# Altium footprint library PcbLib1.PcbLib: 43 footprints (part 1 of 3)
Each footprint in its own frame and in the unit in brackets; x right, y up, seen from the top. Pads: shape width x height; smd on the part's side, far side on the other; paste and mask are expansions set on the pad; w line width, h text height; cw(c..) or ccw(c..) is an arc to the next point about the centre after c.
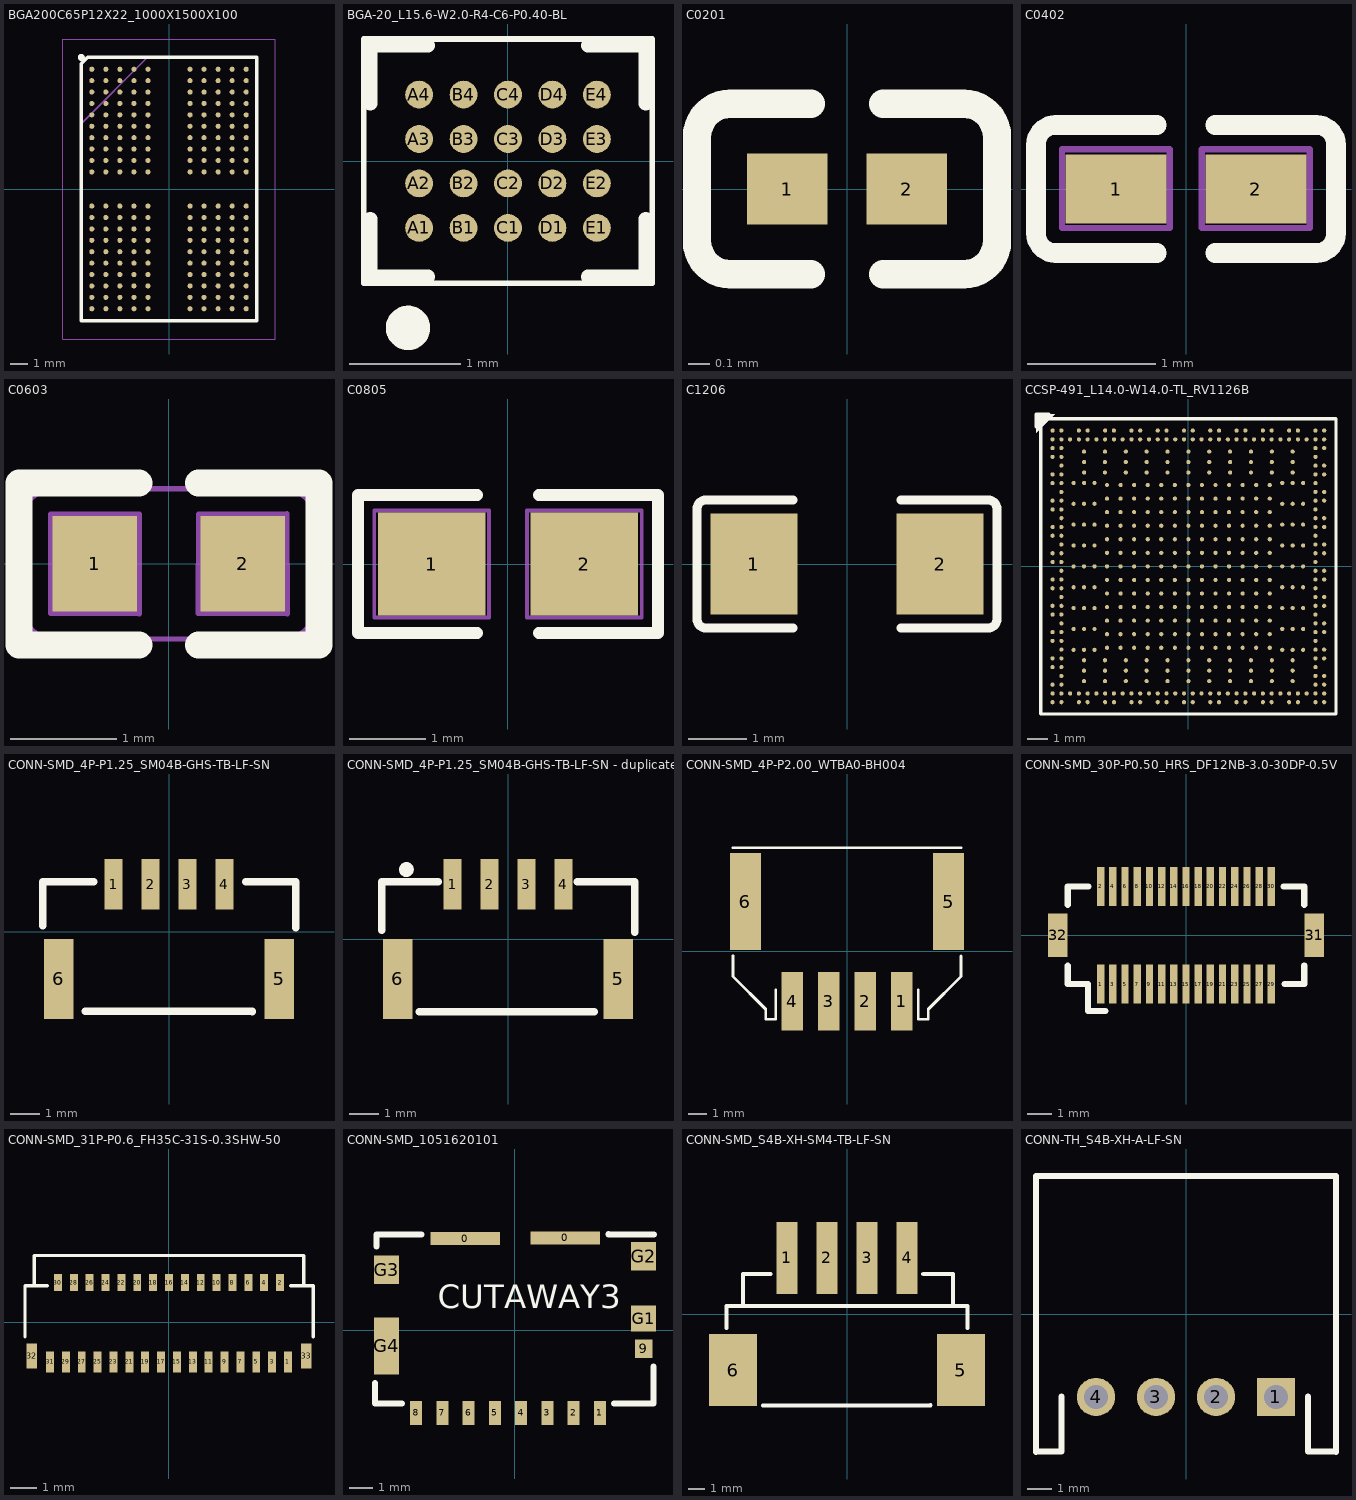
[diagram p0: the footprints below, top view; thin cyan lines are the x and y axes]

## BGA200C65P12X22_1000X1500X100 [mm]
pads (200):
  round 0.29 smd: A1(-4.4,6.825) A2(-3.6,6.825) A3(-2.8,6.825) A4(-2,6.825) A5(-1.2,6.825) A8(1.2,6.825) A9(2,6.825) A10(2.8,6.825) A11(3.6,6.825) A12(4.4,6.825) AA1(-4.4,-6.175) AA2(-3.6,-6.175) AA3(-2.8,-6.175) AA4(-2,-6.175) AA5(-1.2,-6.175) AA8(1.2,-6.175) AA9(2,-6.175) AA10(2.8,-6.175) AA11(3.6,-6.175) AA12(4.4,-6.175) AB1(-4.4,-6.825) AB2(-3.6,-6.825) AB3(-2.8,-6.825) AB4(-2,-6.825) AB5(-1.2,-6.825) AB8(1.2,-6.825) AB9(2,-6.825) AB10(2.8,-6.825) AB11(3.6,-6.825) AB12(4.4,-6.825) B1(-4.4,6.175) B2(-3.6,6.175) B3(-2.8,6.175) B4(-2,6.175) B5(-1.2,6.175) B8(1.2,6.175) B9(2,6.175) B10(2.8,6.175) B11(3.6,6.175) B12(4.4,6.175) C1(-4.4,5.525) C2(-3.6,5.525) C3(-2.8,5.525) C4(-2,5.525) C5(-1.2,5.525) C8(1.2,5.525) C9(2,5.525) C10(2.8,5.525) C11(3.6,5.525) C12(4.4,5.525) D1(-4.4,4.875) D2(-3.6,4.875) D3(-2.8,4.875) D4(-2,4.875) D5(-1.2,4.875) D8(1.2,4.875) D9(2,4.875) D10(2.8,4.875) D11(3.6,4.875) D12(4.4,4.875) E1(-4.4,4.225) E2(-3.6,4.225) E3(-2.8,4.225) E4(-2,4.225) E5(-1.2,4.225) E8(1.2,4.225) E9(2,4.225) E10(2.8,4.225) E11(3.6,4.225) E12(4.4,4.225) F1(-4.4,3.575) F2(-3.6,3.575) F3(-2.8,3.575) F4(-2,3.575) F5(-1.2,3.575) F8(1.2,3.575) F9(2,3.575) F10(2.8,3.575) F11(3.6,3.575) F12(4.4,3.575) G1(-4.4,2.925) G2(-3.6,2.925) G3(-2.8,2.925) G4(-2,2.925) G5(-1.2,2.925) G8(1.2,2.925) G9(2,2.925) G10(2.8,2.925) G11(3.6,2.925) G12(4.4,2.925) H1(-4.4,2.275) H2(-3.6,2.275) H3(-2.8,2.275) H4(-2,2.275) H5(-1.2,2.275) H8(1.2,2.275) H9(2,2.275) H10(2.8,2.275) H11(3.6,2.275) H12(4.4,2.275) J1(-4.4,1.625) J2(-3.6,1.625) J3(-2.8,1.625) J4(-2,1.625) J5(-1.2,1.625) J8(1.2,1.625) J9(2,1.625) J10(2.8,1.625) J11(3.6,1.625) J12(4.4,1.625) K1(-4.4,0.975) K2(-3.6,0.975) K3(-2.8,0.975) K4(-2,0.975) K5(-1.2,0.975) K8(1.2,0.975) K9(2,0.975) K10(2.8,0.975) K11(3.6,0.975) K12(4.4,0.975) N1(-4.4,-0.975) N2(-3.6,-0.975) N3(-2.8,-0.975) N4(-2,-0.975) N5(-1.2,-0.975) N8(1.2,-0.975) N9(2,-0.975) N10(2.8,-0.975) N11(3.6,-0.975) N12(4.4,-0.975) P1(-4.4,-1.625) P2(-3.6,-1.625) P3(-2.8,-1.625) P4(-2,-1.625) P5(-1.2,-1.625) P8(1.2,-1.625) P9(2,-1.625) P10(2.8,-1.625) P11(3.6,-1.625) P12(4.4,-1.625) R1(-4.4,-2.275) R2(-3.6,-2.275) R3(-2.8,-2.275) R4(-2,-2.275) R5(-1.2,-2.275) R8(1.2,-2.275) R9(2,-2.275) R10(2.8,-2.275) R11(3.6,-2.275) R12(4.4,-2.275) T1(-4.4,-2.925) T2(-3.6,-2.925) T3(-2.8,-2.925) T4(-2,-2.925) T5(-1.2,-2.925) T8(1.2,-2.925) T9(2,-2.925) T10(2.8,-2.925) T11(3.6,-2.925) T12(4.4,-2.925) U1(-4.4,-3.575) U2(-3.6,-3.575) U3(-2.8,-3.575) U4(-2,-3.575) U5(-1.2,-3.575) U8(1.2,-3.575) U9(2,-3.575) U10(2.8,-3.575) U11(3.6,-3.575) U12(4.4,-3.575) V1(-4.4,-4.225) V2(-3.6,-4.225) V3(-2.8,-4.225) V4(-2,-4.225) V5(-1.2,-4.225) V8(1.2,-4.225) V9(2,-4.225) V10(2.8,-4.225) V11(3.6,-4.225) V12(4.4,-4.225) W1(-4.4,-4.875) W2(-3.6,-4.875) W3(-2.8,-4.875) W4(-2,-4.875) W5(-1.2,-4.875) W8(1.2,-4.875) W9(2,-4.875) W10(2.8,-4.875) W11(3.6,-4.875) W12(4.4,-4.875) Y1(-4.4,-5.525) Y2(-3.6,-5.525) Y3(-2.8,-5.525) Y4(-2,-5.525) Y5(-1.2,-5.525) Y8(1.2,-5.525) Y9(2,-5.525) Y10(2.8,-5.525) Y11(3.6,-5.525) Y12(4.4,-5.525)
Top Overlay:
  circle w0.2: c-5,7.5 r0.1
  lines w0.2: -5,-7.5 -5,7.139 -4.639,7.5 5,7.5 5,-7.5 -5,-7.5
Mechanical 15:
  lines w0.1: -5,3.725 -1.225,7.5 ; -5,-7.5 -5,7.5 5,7.5 5,-7.5 -5,-7.5
Mechanical 20:
  lines w0.05: -6.05,-8.55 -6.05,8.55 6.05,8.55 6.05,-8.55 -6.05,-8.55
3D body "step_temp.STEP": height 0.95, standoff 0, extent -5,-7.25 5,7.25

## BGA-20_L15.6-W2.0-R4-C6-P0.40-BL [mm]
pads (20):
  round 0.25 smd mask+0.076: A1(-0.8,-0.6) A2(-0.8,-0.2) A3(-0.8,0.2) A4(-0.8,0.6) B1(-0.4,-0.6) B2(-0.4,-0.2) B3(-0.4,0.2) B4(-0.4,0.6) C1(0,-0.6) C2(0,-0.2) C3(0,0.2) C4(0,0.6) D1(0.4,-0.6) D2(0.4,-0.2) D3(0.4,0.2) D4(0.4,0.6) E1(0.8,-0.6) E2(0.8,-0.2) E3(0.8,0.2) E4(0.8,0.6)
Top Overlay:
  circle w0.2: c-0.9,-1.5 r0.1
  lines w0.05: -1.3,-1.1 -1.3,1.1 1.3,1.1 1.3,-1.1 -1.3,-1.1
  lines w0.127: -1.24,-0.52 -1.24,-1.04 -0.72,-1.04 ; -1.24,0.52 -1.24,1.04 -0.72,1.04 ; 0.72,-1.04 1.24,-1.04 1.24,-0.52 ; 0.72,1.04 1.24,1.04 1.24,0.52
3D body: height 0.56, standoff 0.08, extent -1.321,-1.118 1.321,1.118

## C0201 [mm]
pads (2):
  rect 0.368x0.324 smd paste-100 mask+0.051: 1(-0.274,0) 2(0.274,0)
Top Overlay:
  lines w0.13: -0.166,-0.391 -0.535,-0.391 cw(c-0.535,-0.238) -0.687,-0.238 -0.687,0.238 cw(c-0.535,0.238) -0.535,0.391 -0.166,0.391 ; 0.166,-0.391 0.535,-0.391 ccw(c0.535,-0.238) 0.687,-0.238 0.687,0.238 ccw(c0.535,0.238) 0.535,0.391 0.166,0.391
Top Paste:
  region: -0.081,-0.138 -0.081,0.138 -0.105,0.162 -0.434,0.162 -0.458,0.138 -0.458,-0.138 -0.434,-0.162 -0.105,-0.162
  region: 0.081,-0.138 0.081,0.138 0.105,0.162 0.434,0.162 0.458,0.138 0.458,-0.138 0.434,-0.162 0.105,-0.162
3D body "User Library-User Library-0201_Cap.step": height 0.31, standoff 0, extent -0.414,-0.15 0.466,0.15

## C0402 [mm] "cap"
height 0.55
pads (2):
  rect 0.79x0.54 smd paste+0 mask+0.05: 1(-0.545,0) 2(0.545,0)
Top Overlay:
  lines w0.152: -0.226,-0.499 -1.016,-0.499 cw(c-1.016,-0.346) -1.169,-0.346 -1.169,0.346 cw(c-1.016,0.346) -1.016,0.499 -0.226,0.499 ; 0.226,-0.499 1.016,-0.499 ccw(c1.016,-0.346) 1.169,-0.346 1.169,0.346 ccw(c1.016,0.346) 1.016,0.499 0.226,0.499
Top Paste:
  region: -0.18,0.225 -0.18,-0.225 -0.25,-0.275 -0.73,-0.275 -0.78,-0.225 -0.78,0.225 -0.73,0.275 -0.25,0.275
  region: 0.78,0.225 0.78,-0.225 0.73,-0.275 0.25,-0.275 0.18,-0.225 0.18,0.225 0.25,0.275 0.73,0.275
Mechanical 2:
  lines w0.05: -0.226,-0.499 -1.016,-0.499 cw(c-1.016,-0.346) -1.169,-0.346 -1.169,0.346 cw(c-1.016,0.346) -1.016,0.499 -0.226,0.499 ; 0.226,-0.499 1.016,-0.499 ccw(c1.016,-0.346) 1.169,-0.346 1.169,0.346 ccw(c1.016,0.346) 1.016,0.499 0.226,0.499 ; -0.966,-0.303 -0.127,-0.304 -0.126,0.31 -0.966,0.311 -0.966,-0.303 ; 0.124,-0.303 0.963,-0.304 0.964,0.31 0.124,0.311 0.124,-0.303
3D body "User Library-CAP_NP_0402_10Lx05Wx06H.sldprt": height 0.53, standoff 0, extent -0.523,-0.267 0.517,0.258

## C0603 [mm] "cap 0603"
height 0.85
pads (2):
  rect 0.8x0.9 smd paste+0 mask+0.051: 1(-0.7,0) 2(0.7,0)
Top Overlay:
  lines w0.254: -0.28,-0.766 -1.415,-0.766 -1.415,0.763 -0.28,0.763 ; 0.28,-0.769 1.42,-0.769 1.42,0.764 0.28,0.764
Mechanical 2:
  lines w0.05: 1.08,-0.71 ccw(c1.08,-0.4) 1.39,-0.4 1.39,0.4 ccw(c1.08,0.4) 1.08,0.71 ; 1.08,-0.71 0.28,-0.71 -0.28,-0.71 -1.08,-0.71 cw(c-1.08,-0.4) -1.39,-0.4 -1.39,0.4 cw(c-1.08,0.4) -1.08,0.71 -0.28,0.71 0.28,0.71 1.08,0.71 ; -1.117,-0.47 -1.114,0.468 -0.279,0.471 -0.277,-0.473 -1.117,-0.47 ; 0.28,-0.468 0.283,0.469 1.118,0.472 1.119,-0.472 0.28,-0.468
3D body "User Library-C0603-2.sldprt": height 0.8, standoff 0, extent -0.81,-0.396 0.79,0.404

## C0805 [mm]
height 0.025
pads (2):
  rect 1.41x1.35 smd paste-100 mask+0.05: 1(-1,0)
  rect 1.41x1.35 smd paste-100 mask+0.051: 2(1,0)
Top Overlay:
  lines w0.152: -0.401,-0.904 -1.964,-0.904 -1.964,0.904 -0.401,0.904 ; 0.401,-0.904 1.964,-0.904 1.964,0.904 0.401,0.904
Top Paste:
  region: 1.705,0.64 1.705,-0.64 1.655,-0.69 0.505,-0.69 0.455,-0.64 0.45,-0.23 0.9,-0.23 0.9,0.22 0.46,0.22 0.455,0.64 0.505,0.69 1.655,0.69
  region: -1.705,-0.64 -1.705,0.64 -1.655,0.69 -0.505,0.69 -0.455,0.64 -0.45,0.23 -0.9,0.23 -0.9,-0.22 -0.46,-0.22 -0.455,-0.64 -0.505,-0.69 -1.655,-0.69
Mechanical 2:
  lines w0.05: -0.401,-0.904 -1.811,-0.904 cw(c-1.811,-0.751) -1.964,-0.751 -1.964,0.751 cw(c-1.811,0.751) -1.811,0.904 -0.401,0.904 ; 0.401,-0.904 1.811,-0.904 ccw(c1.811,-0.751) 1.964,-0.751 1.964,0.751 ccw(c1.811,0.751) 1.811,0.904 0.401,0.904 ; -1.75,-0.7 -0.25,-0.7 -0.25,0.7 -1.75,0.7 -1.75,-0.7 ; 0.25,-0.7 1.75,-0.7 1.75,0.7 0.25,0.7 0.25,-0.7
3D body "CAP_0805_SAM.step": height 0.71, standoff 0, extent -1.304,-0.673 0.804,0.673

## C1206 [mm] "1206"
height 0.86
pads (2):
  rect 1.485x1.728 smd paste-100 mask+0.051: 1(-1.593,0) 2(1.593,0)
Top Overlay:
  lines w0.152: -0.926,-1.093 -2.411,-1.093 cw(c-2.411,-0.94) -2.564,-0.94 -2.564,0.94 cw(c-2.411,0.94) -2.411,1.093 -0.926,1.093 ; 0.926,-1.093 2.411,-1.093 ccw(c2.411,-0.94) 2.564,-0.94 2.564,0.94 ccw(c2.411,0.94) 2.411,1.093 0.926,1.093
Top Paste:
  region: -0.85,-0.764 -0.85,-0.394 -0.95,-0.294 -1.255,-0.294 -1.355,-0.194 -1.355,0.194 -1.255,0.294 -0.95,0.294 -0.85,0.394 -0.85,0.764 -0.95,0.864 -2.235,0.864 -2.335,0.764 -2.335,-0.764 -2.235,-0.864 -0.95,-0.864
  region: 0.85,-0.764 0.85,-0.394 0.95,-0.294 1.255,-0.294 1.355,-0.194 1.355,0.194 1.255,0.294 0.95,0.294 0.85,0.394 0.85,0.764 0.95,0.864 2.235,0.864 2.335,0.764 2.335,-0.764 2.235,-0.864 0.95,-0.864
3D body "User Library-User Library-1206_Cap.step": height 1.25, standoff 0, extent -2.22,-0.8 2.32,0.8

## CCSP-491_L14.0-W14.0-TL_RV1126B [mm]
pads (491):
  round 0.2 smd paste-100 mask+0.05: A1(-6.51,6.51) A1-2(-5,5.5) A1-4(-4,5.5) A1-6(-3,5.5) A1-8(-2,5.5) A1-10(-1,5.5) A1-12(0,5.5) A1-14(1,5.5) A1-16(2,5.5) A1-18(3,5.5) A1-20(4,5.5) A1-22(5,5.5) A2(-6.09,6.51) A2-1(-3.9,3.9) A2-2(-3.25,3.9) A2-3(-2.6,3.9) A2-4(-1.95,3.9) A2-5(-1.3,3.9) A2-6(-0.65,3.9) A2-7(0,3.9) A2-8(0.65,3.9) A2-9(1.3,3.9) A2-10(1.95,3.9) A2-11(2.6,3.9) A2-12(3.25,3.9) A2-13(3.9,3.9) A4(-5.25,6.51) A5(-4.83,6.51) A7(-3.99,6.51) A8(-3.57,6.51) A10(-2.73,6.51) A11(-2.31,6.51) A13(-1.47,6.51) A14(-1.05,6.51) A16(-0.21,6.51) A17(0.21,6.51) A19(1.05,6.51) A20(1.47,6.51) A22(2.31,6.51) A23(2.73,6.51) A25(3.57,6.51) A26(3.99,6.51) A28(4.83,6.51) A29(5.25,6.51) A31(6.09,6.51) A32(6.51,6.51) AA1(-6.51,-1.89) AA1-2(-5,-4.5) AA1-4(-4,-4.5) AA1-6(-3,-4.5) AA1-8(-2,-4.5) AA1-10(-1,-4.5) AA1-12(0,-4.5) AA1-14(1,-4.5) AA1-16(2,-4.5) AA1-18(3,-4.5) AA1-20(4,-4.5) AA1-22(5,-4.5) AA2(-6.09,-1.89) AA31(6.09,-1.89) AA32(6.51,-1.89) AB1(-6.51,-2.31) AB1-2(-5,-5) AB1-4(-4,-5) AB1-6(-3,-5) AB1-8(-2,-5) AB1-10(-1,-5) AB1-12(0,-5) AB1-14(1,-5) AB1-16(2,-5) AB1-18(3,-5) AB1-20(4,-5) AB1-22(5,-5) AB2(-6.09,-2.31) AB31(6.09,-2.31) AC1-2(-5,-5.5) AC1-4(-4,-5.5) AC1-6(-3,-5.5) AC1-8(-2,-5.5) AC1-10(-1,-5.5) AC1-12(0,-5.5) AC1-14(1,-5.5) AC1-16(2,-5.5) AC1-18(3,-5.5) AC1-20(4,-5.5) AC1-22(5,-5.5) AC2(-6.09,-2.73) AC31(6.09,-2.73) AC32(6.51,-2.73) AD1(-6.51,-3.15) AD2(-6.09,-3.15) AD31(6.09,-3.15) AD32(6.51,-3.15) AE1(-6.51,-3.57) AE2(-6.09,-3.57) AE31(6.09,-3.57) AF2(-6.09,-3.99) AF31(6.09,-3.99) AF32(6.51,-3.99) AG1(-6.51,-4.41) AG2(-6.09,-4.41) AG31(6.09,-4.41) AG32(6.51,-4.41) AH1(-6.51,-4.83) AH2(-6.09,-4.83) AH31(6.09,-4.83) AJ2(-6.09,-5.25) AJ31(6.09,-5.25) AJ32(6.51,-5.25) AK1(-6.51,-5.67) AK2(-6.09,-5.67) AK31(6.09,-5.67) AK32(6.51,-5.67) AL1(-6.51,-6.09) AL2(-6.09,-6.09) AL3(-5.67,-6.09) AL4(-5.25,-6.09) AL5(-4.83,-6.09) AL6(-4.41,-6.09) AL7(-3.99,-6.09) AL8(-3.57,-6.09) AL9(-3.15,-6.09) AL10(-2.73,-6.09) AL11(-2.31,-6.09) AL12(-1.89,-6.09) AL13(-1.47,-6.09) AL14(-1.05,-6.09) AL15(-0.63,-6.09) AL16(-0.21,-6.09) AL17(0.21,-6.09) AL18(0.63,-6.09) AL19(1.05,-6.09) AL20(1.47,-6.09) AL21(1.89,-6.09) AL22(2.31,-6.09) AL23(2.73,-6.09) AL24(3.15,-6.09) AL25(3.57,-6.09) AL26(3.99,-6.09) AL27(4.41,-6.09) AL28(4.83,-6.09) AL29(5.25,-6.09) AL30(5.67,-6.09) AL31(6.09,-6.09) AL32(6.51,-6.09) AM1(-6.51,-6.51) AM2(-6.09,-6.51) AM4(-5.25,-6.51) AM5(-4.83,-6.51) AM7(-3.99,-6.51) AM8(-3.57,-6.51) AM10(-2.73,-6.51) AM11(-2.31,-6.51) AM13(-1.47,-6.51) AM14(-1.05,-6.51) AM16(-0.21,-6.51) AM17(0.21,-6.51) AM19(1.05,-6.51) AM20(1.47,-6.51) AM22(2.31,-6.51) AM23(2.73,-6.51) AM25(3.57,-6.51) AM26(3.99,-6.51) AM28(4.83,-6.51) AM29(5.25,-6.51) AM31(6.09,-6.51) AM32(6.51,-6.51) B1(-6.51,6.09) B1-2(-5,5) B1-4(-4,5) B1-6(-3,5) B1-8(-2,5) B1-10(-1,5) B1-12(0,5) B1-14(1,5) B1-16(2,5) B1-18(3,5) B1-20(4,5) B1-22(5,5) B2(-6.09,6.09) B2-1(-3.9,3.25) B2-2(-3.25,3.25) B2-3(-2.6,3.25) B2-4(-1.95,3.25) B2-5(-1.3,3.25) B2-6(-0.65,3.25) B2-7(0,3.25) B2-8(0.65,3.25) B2-9(1.3,3.25) B2-10(1.95,3.25) B2-11(2.6,3.25) B2-12(3.25,3.25) B2-13(3.9,3.25) B3(-5.67,6.09) B4(-5.25,6.09) B5(-4.83,6.09) B6(-4.41,6.09) B7(-3.99,6.09) B8(-3.57,6.09) B9(-3.15,6.09) B10(-2.73,6.09) B11(-2.31,6.09) B12(-1.89,6.09) B13(-1.47,6.09) B14(-1.05,6.09) B15(-0.63,6.09) B16(-0.21,6.09) B17(0.21,6.09) B18(0.63,6.09) B19(1.05,6.09) B20(1.47,6.09) B21(1.89,6.09) B22(2.31,6.09) B23(2.73,6.09) B24(3.15,6.09) B25(3.57,6.09) B26(3.99,6.09) B27(4.41,6.09) B28(4.83,6.09) B29(5.25,6.09) B30(5.67,6.09) B31(6.09,6.09) B32(6.51,6.09) C1(-6.51,5.67) C1-2(-5,4.5) C1-4(-4,4.5) C1-6(-3,4.5) C1-8(-2,4.5) C1-10(-1,4.5) C1-12(0,4.5) C1-14(1,4.5) C1-16(2,4.5) C1-18(3,4.5) C1-20(4,4.5) C1-22(5,4.5) C2(-6.09,5.67) C2-1(-3.9,2.6) C2-2(-3.25,2.6) C2-3(-2.6,2.6) C2-4(-1.95,2.6) C2-5(-1.3,2.6) C2-6(-0.65,2.6) C2-7(0,2.6) C2-8(0.65,2.6) C2-9(1.3,2.6) C2-10(1.95,2.6) C2-11(2.6,2.6) C2-12(3.25,2.6) C2-13(3.9,2.6) C31(6.09,5.67) C32(6.51,5.67) D1(-6.51,5.25) D1-1(-5.5,4) D1-2(-5,4) D1-3(-4.5,4) D1-21(4.5,4) D1-22(5,4) D1-23(5.5,4) D2(-6.09,5.25) D2-1(-3.9,1.95) D2-2(-3.25,1.95) D2-3(-2.6,1.95) D2-4(-1.95,1.95) D2-5(-1.3,1.95) D2-6(-0.65,1.95) D2-7(0,1.95) D2-8(0.65,1.95) D2-9(1.3,1.95) D2-10(1.95,1.95) D2-11(2.6,1.95) D2-12(3.25,1.95) D2-13(3.9,1.95) D31(6.09,5.25) E2(-6.09,4.83) E2-1(-3.9,1.3) E2-2(-3.25,1.3) E2-3(-2.6,1.3) E2-4(-1.95,1.3) E2-5(-1.3,1.3) E2-6(-0.65,1.3) E2-7(0,1.3) E2-8(0.65,1.3) E2-9(1.3,1.3) E2-10(1.95,1.3) E2-11(2.6,1.3) E2-12(3.25,1.3) E2-13(3.9,1.3) E31(6.09,4.83) E32(6.51,4.83) F1(-6.51,4.41) F1-1(-5.5,3) F1-2(-5,3) F1-3(-4.5,3) F1-21(4.5,3) F1-22(5,3) F1-23(5.5,3) F2(-6.09,4.41) F2-1(-3.9,0.65) F2-2(-3.25,0.65) F2-3(-2.6,0.65) F2-4(-1.95,0.65) F2-5(-1.3,0.65) F2-6(-0.65,0.65) F2-7(0,0.65) F2-8(0.65,0.65) F2-9(1.3,0.65) F2-10(1.95,0.65) F2-11(2.6,0.65) F2-12(3.25,0.65) F2-13(3.9,0.65) F31(6.09,4.41) F32(6.51,4.41) G1(-6.51,3.99) G2(-6.09,3.99) G2-1(-3.9,0) G2-2(-3.25,0) G2-3(-2.6,0) G2-4(-1.95,0) G2-5(-1.3,0) G2-6(-0.65,0) G2-7(0,0) G2-8(0.65,0) G2-9(1.3,0) G2-10(1.95,0) G2-11(2.6,0) G2-12(3.25,0) G2-13(3.9,0) G31(6.09,3.99) H1-1(-5.5,2) H1-2(-5,2) H1-3(-4.5,2) H1-21(4.5,2) H1-22(5,2) H1-23(5.5,2) H2(-6.09,3.57) H2-1(-3.9,-0.65) H2-2(-3.25,-0.65) H2-3(-2.6,-0.65) H2-4(-1.95,-0.65) H2-5(-1.3,-0.65) H2-6(-0.65,-0.65) H2-7(0,-0.65) H2-8(0.65,-0.65) H2-9(1.3,-0.65) H2-10(1.95,-0.65) H2-11(2.6,-0.65) H2-12(3.25,-0.65) H2-13(3.9,-0.65) H31(6.09,3.57) H32(6.51,3.57) J1(-6.51,3.15) J2(-6.09,3.15) J2-1(-3.9,-1.3) J2-2(-3.25,-1.3) J2-3(-2.6,-1.3) J2-4(-1.95,-1.3) J2-5(-1.3,-1.3) J2-6(-0.65,-1.3) J2-7(0,-1.3) J2-8(0.65,-1.3) J2-9(1.3,-1.3) J2-10(1.95,-1.3) J2-11(2.6,-1.3) J2-12(3.25,-1.3) J2-13(3.9,-1.3) J31(6.09,3.15) J32(6.51,3.15) K1(-6.51,2.73) K1-1(-5.5,1) K1-2(-5,1) K1-3(-4.5,1) K1-21(4.5,1) K1-22(5,1) K1-23(5.5,1) K2(-6.09,2.73) K2-1(-3.9,-1.95) K2-2(-3.25,-1.95) K2-3(-2.6,-1.95) K2-4(-1.95,-1.95) K2-5(-1.3,-1.95) K2-6(-0.65,-1.95) K2-7(0,-1.95) K2-8(0.65,-1.95) K2-9(1.3,-1.95) K2-10(1.95,-1.95) K2-11(2.6,-1.95) K2-12(3.25,-1.95) K2-13(3.9,-1.95) K31(6.09,2.73) L2(-6.09,2.31) L2-1(-3.9,-2.6) L2-2(-3.25,-2.6) L2-3(-2.6,-2.6) L2-4(-1.95,-2.6) L2-5(-1.3,-2.6) L2-6(-0.65,-2.6) L2-7(0,-2.6) L2-8(0.65,-2.6) L2-9(1.3,-2.6) L2-10(1.95,-2.6) L2-11(2.6,-2.6) L2-12(3.25,-2.6) L2-13(3.9,-2.6) L31(6.09,2.31) L32(6.51,2.31) M1(-6.51,1.89) M1-1(-5.5,0) M1-2(-5,0) M1-3(-4.5,0) M1-21(4.5,0) M1-22(5,0) M1-23(5.5,0) M2(-6.09,1.89) M2-1(-3.9,-3.25) M2-2(-3.25,-3.25) M2-3(-2.6,-3.25) M2-4(-1.95,-3.25) M2-5(-1.3,-3.25) M2-6(-0.65,-3.25) M2-7(0,-3.25) M2-8(0.65,-3.25) M2-9(1.3,-3.25) M2-10(1.95,-3.25) M2-11(2.6,-3.25) M2-12(3.25,-3.25) M2-13(3.9,-3.25) M31(6.09,1.89) M32(6.51,1.89) N1(-6.51,1.47) N2(-6.09,1.47) N2-1(-3.9,-3.9) N2-2(-3.25,-3.9) N2-3(-2.6,-3.9) N2-4(-1.95,-3.9) N2-5(-1.3,-3.9) N2-6(-0.65,-3.9) N2-7(0,-3.9) N2-8(0.65,-3.9) N2-9(1.3,-3.9) N2-10(1.95,-3.9) N2-11(2.6,-3.9) N2-12(3.25,-3.9) N2-13(3.9,-3.9) N31(6.09,1.47) P1-1(-5.5,-1) P1-2(-5,-1) P1-3(-4.5,-1) P1-21(4.5,-1) P1-22(5,-1) P1-23(5.5,-1) P2(-6.09,1.05) P31(6.09,1.05) P32(6.51,1.05) R1(-6.51,0.63) R2(-6.09,0.63) R31(6.09,0.63) R32(6.51,0.63) T1(-6.51,0.21) T1-1(-5.5,-2) T1-2(-5,-2) T1-3(-4.5,-2) T1-21(4.5,-2) T1-22(5,-2) T1-23(5.5,-2) T2(-6.09,0.21) T31(6.09,0.21) U2(-6.09,-0.21) U31(6.09,-0.21) U32(6.51,-0.21) V1(-6.51,-0.63) V1-1(-5.5,-3) V1-2(-5,-3) V1-3(-4.5,-3) V1-21(4.5,-3) V1-22(5,-3) V1-23(5.5,-3) V2(-6.09,-0.63) V31(6.09,-0.63) V32(6.51,-0.63) W1(-6.51,-1.05) W2(-6.09,-1.05) W31(6.09,-1.05) Y1-1(-5.5,-4) Y1-2(-5,-4) Y1-3(-4.5,-4) Y1-21(4.5,-4) Y1-22(5,-4) Y1-23(5.5,-4) Y2(-6.09,-1.47) Y31(6.09,-1.47) Y32(6.51,-1.47)
Top Overlay:
  region: -7.3,7.3 -6.4,7.3 -7.3,6.4
  lines w0.152: -7.305,6.684 -7.305,7.305 -6.684,7.305 ; -7.076,-7.076 -7.076,7.076 7.076,7.076 7.076,-7.076 -7.076,-7.076
Top Paste:
  drawing of 491 lines, arcs and shapes, not listed
Mechanical 2:
  lines w0.05: -7.076,-7.076 7.076,-7.076 7.076,7.076 -7.076,7.076 -7.076,-7.076
Mechanical 15:
  region: -7.3,7.3 -6.4,7.3 -7.3,6.4
3D body "RV1126B-P.stp": height 0.9, standoff 0, extent -6.988,-6.99 7.012,7.01

## CONN-SMD_4P-P1.25_SM04B-GHS-TB-LF-SN [mm]
pads (6):
  rect 0.6x1.7 smd paste+0 mask+0.051: 1(-1.876,1.6) 2(-0.626,1.6) 3(0.624,1.6) 4(1.875,1.6)
  rect 1x2.7 smd paste+0 mask+0.051: 5(3.725,-1.6) 6(-3.725,-1.6)
Top Overlay:
  lines w0.254: -4.27,0.206 -4.27,1.69 -2.553,1.69 ; -2.838,-2.699 2.812,-2.703 ; 2.593,1.68 4.28,1.68 4.28,0.123
3D body "SM04B-GHS-TB-LF--SN---3DModel-STEP-510211.STEP": height 4.35, standoff 0, extent -4.109,-2.65 4.141,2.2

## CONN-SMD_4P-P1.25_SM04B-GHS-TB-LF-SN - duplicate [mm]
pads (6):
  rect 0.6x1.7 smd paste+0 mask+0.051: 1(-1.881,1.85) 2(-0.631,1.85) 3(0.619,1.85) 4(1.87,1.85)
  rect 1x2.7 smd paste+0 mask+0.051: 5(3.72,-1.35) 6(-3.73,-1.35)
Top Overlay:
  circle w0.25: c-3.443,2.349 r0.125
  lines w0.254: -4.275,0.29 -4.275,1.94 -2.365,1.94 ; -3.005,-2.46 2.915,-2.46 ; 2.335,1.93 4.275,1.93 4.275,0.23
Mechanical 15:
  circle w0.25: c-1.895,1.38 r0.125

## CONN-SMD_4P-P2.00_WTBA0-BH004 [mm]
pads (6):
  rect 1.2x3.2 smd paste+0 mask+0.05: 1(3,-2.725) 2(1,-2.725) 3(-1,-2.725) 4(-3,-2.725)
  rect 1.7x5.3 smd paste+0 mask+0.05: 5(5.565,2.725) 6(-5.565,2.725)
Top Overlay:
  lines w0.152: -6.25,-0.248 -6.25,-1.375 -4.45,-3.175 -4.45,-3.725 -3.9,-3.725 -3.9,-2.125 ; -6.25,5.675 -6.2,5.675 6.25,5.675 ; 3.901,-2.125 3.901,-3.725 4.451,-3.725 4.451,-3.175 6.251,-1.375 6.251,-0.26
Mechanical 15:
  circle w0.3: c3,-1.725 r0.15
3D body "5023520401.stp": height 6.46, standoff 0.06, extent -5.993,-3.745 6.007,5.655

## CONN-SMD_30P-P0.50_HRS_DF12NB-3.0-30DP-0.5V [mm]
pads (32):
  rect 0.3x1.6 smd paste+0 mask+0.05: 1(-3.5,-1.994) 2(-3.5,2.006) 3(-3,-1.994) 4(-3,2.006) 5(-2.5,-1.994) 6(-2.5,2.006) 7(-2,-1.994) 8(-2,2.006) 9(-1.5,-1.994) 10(-1.5,2.006) 11(-1,-1.994) 12(-1,2.006) 13(-0.5,-1.994) 14(-0.5,2.006) 15(0,-1.994) 16(0,2.006) 17(0.5,-1.994) 18(0.5,2.006) 19(1,-1.994) 20(1,2.006) 21(1.5,-1.994) 22(1.5,2.006) 23(2,-1.994) 24(2,2.006) 25(2.5,-1.994) 26(2.5,2.006) 27(3,-1.994) 28(3,2.006) 29(3.5,-1.994) 30(3.5,2.006)
  rect 0.8x1.8 smd paste+0 mask+0.05: 31(5.25,0.006) 32(-5.25,0.006)
Top Overlay:
  lines w0.254: -4.85,-1.242 -4.85,-1.994 -4.02,-1.994 -4.02,-3.102 -3.302,-3.102 ; -4.85,1.255 -4.85,2.006 -3.996,2.006 ; 4.001,2.006 4.85,2.006 ; 4.044,-1.994 4.85,-1.994 4.85,-1.234 ; 4.85,1.255 4.85,1.943
3D body "DF12NB(3.0)-30DP-0.5V(51).STEP": height 2.3, standoff 0, extent -5.339,-2.239 5.261,2.361

## CONN-SMD_31P-P0.6_FH35C-31S-0.3SHW-50 [mm]
pads (33):
  rect 0.3x0.8 smd paste+0 mask+0.051: 1(4.5,-1.5) 3(3.9,-1.5) 5(3.3,-1.5) 7(2.7,-1.5) 9(2.1,-1.5) 11(1.5,-1.5) 13(0.9,-1.5) 15(0.3,-1.5) 17(-0.3,-1.5) 19(-0.9,-1.5) 21(-1.5,-1.5) 23(-2.1,-1.5) 25(-2.7,-1.5) 27(-3.3,-1.5) 29(-3.9,-1.5) 31(-4.5,-1.5)
  rect 0.3x0.65 smd paste+0 mask+0.051: 2(4.2,1.5) 4(3.6,1.5) 6(3,1.5) 8(2.4,1.5) 10(1.8,1.5) 12(1.2,1.5) 14(0.6,1.5) 16(0,1.5) 18(-0.6,1.5) 20(-1.2,1.5) 22(-1.8,1.5) 24(-2.4,1.5) 26(-3,1.5) 28(-3.6,1.5) 30(-4.2,1.5)
  rect 0.4x0.95 smd paste+0 mask+0.051: 32(-5.2,-1.275) 33(5.2,-1.275)
Top Overlay:
  lines w0.127: -5.449,-0.559 -5.449,1.376 -5.1,1.376 ; -4.6,1.375 -5.1,1.375 ; 4.502,2.523 5.101,2.523 ; 4.609,1.375 5.101,1.375 ; 5.451,-0.556 5.451,1.376 5.101,1.376 5.101,2.524 ; -5.1,1.375 -5.1,2.523 5.101,2.524
3D body "FH35-31S-0.3SHW.stp": height 0.94, standoff 0.04, extent -5.452,-1.702 5.448,2.498

## CONN-SMD_1051620101 [mm]
pads (15):
  rect 2.91x0.55 smd paste+0 mask+0.05: 0(-2.07,3.83) 0(2.12,3.859)
  rect 0.5x1 smd paste+0 mask+0.05: 1(3.575,-3.471) 2(2.474,-3.471) 3(1.374,-3.471) 4(0.275,-3.471) 5(-0.825,-3.471) 6(-1.926,-3.471) 7(-3.025,-3.471) 8(-4.125,-3.471)
  rect 0.72x0.78 smd paste+0 mask+0.05: 9(5.413,-0.791)
  rect 1.05x1.08 smd paste+0 mask+0.05: G1(5.413,0.479)
  rect 1.05x1.199 smd paste+0 mask+0.05: G2(5.413,3.089) G3(-5.363,2.519)
  rect 1.05x2.39 smd paste+0 mask+0.05: G4(-5.363,-0.661)
Top Overlay:
  lines w0.254: -5.845,-2.22 -5.845,-3.076 -4.724,-3.076 ; -5.785,3.498 -5.785,4.009 -3.909,4.009 ; 3.938,4.012 5.845,4.009 ; 4.178,-3.076 5.815,-3.076 5.815,-1.52
  text "CUTAWAY3" at -3.225,0.904 h1
3D body "1051620001.stp": height 1.48, standoff 0.03, extent -5.651,-3.634 5.649,3.966

## CONN-SMD_S4B-XH-SM4-TB-LF-SN [mm]
pads (6):
  rect 1.3x4.5 smd paste+0 mask+0.051: 1(-3.75,3.5) 2(-1.25,3.5) 3(1.25,3.5) 4(3.75,3.5)
  rect 3x4.5 smd paste+0 mask+0.051: 5(7.1,-3.5) 6(-7.1,-3.5)
Top Overlay:
  lines w0.254: -7.5,-0.884 -7.5,0.5 7.5,0.5 7.5,-0.869 ; -6.477,0.5 -6.477,2.484 -4.763,2.484 ; -5.228,-5.699 5.196,-5.688 ; 4.755,2.484 6.604,2.484 6.604,0.5
3D body "S4B-XH-SM4-TB-LF--SN---3DModel-STEP-56544.STEP": height 6.12, standoff 0, extent -7.521,-5.715 7.479,4.285

## CONN-TH_S4B-XH-A-LF-SN [mm]
pads (4):
  rect 1.6x1.6 hole 1 paste-2539.97 mask+0.051: 1(3.75,-3.449)
  round 1.6 hole 1 paste-2539.97 mask+0.051: 2(1.25,-3.449) 3(-1.25,-3.449) 4(-3.75,-3.449)
Top Overlay:
  lines w0.254: -6.25,-5.734 -6.25,5.766 6.25,5.766 6.25,-5.735 ; -6.25,-5.72 -5.18,-5.72 -5.18,-3.434 ; 5.08,-3.434 5.08,-5.72 6.25,-5.72
Mechanical 2:
  lines w0.05: -6.25,-5.749 -6.25,5.751 6.25,5.751 6.25,-5.751 ; -6.25,-5.735 -5.18,-5.735 -5.18,-3.449 ; 5.08,-3.449 5.08,-5.735 6.25,-5.735
3D body "S4B-XH-A(LF)(SN)--3DModel-STEP-56544.STEP": height 6.25, standoff -3.3, extent -6.2,-5.75 6.2,5.75